# EAGLE library part ZHCS2000 (library zetex)
SHOTTKY DIODE
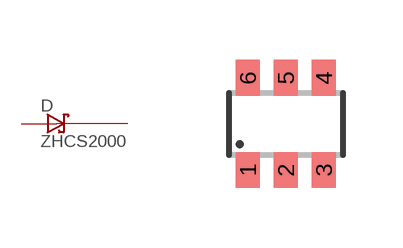
[diagram p26: symbol with the pads of SOT23-6; footprint SOT23-6]

Designator prefix D

## ZHCS2000 (MPN: ZHCS2000; OC_FARNELL: 9525653; OC_NEWARK: 98K3992)  [SOT23-6]
1  C  pas
2  C1  pas
3  A  pas
4  A1  pas
5  C2  pas
6  C3  pas

## Footprint SOT23-6 (pad centres in mm)
Small Outline Transistor 6 lead
smd 0.6 x 0.9: 1 -0.95,-1.15; 2 0,-1.15; 3 0.95,-1.15; 4 0.95,1.15; 5 0,1.15; 6 -0.95,1.15